# Altium footprint library MyLibrary.PcbLib: 365 footprints (part 5 of 23)
Each footprint in its own frame and in the unit in brackets; x right, y up, seen from the top. Pads: shape width x height; smd on the part's side, far side on the other; paste and mask are expansions set on the pad; w line width, h text height; cw(c..) or ccw(c..) is an arc to the next point about the centre after c.
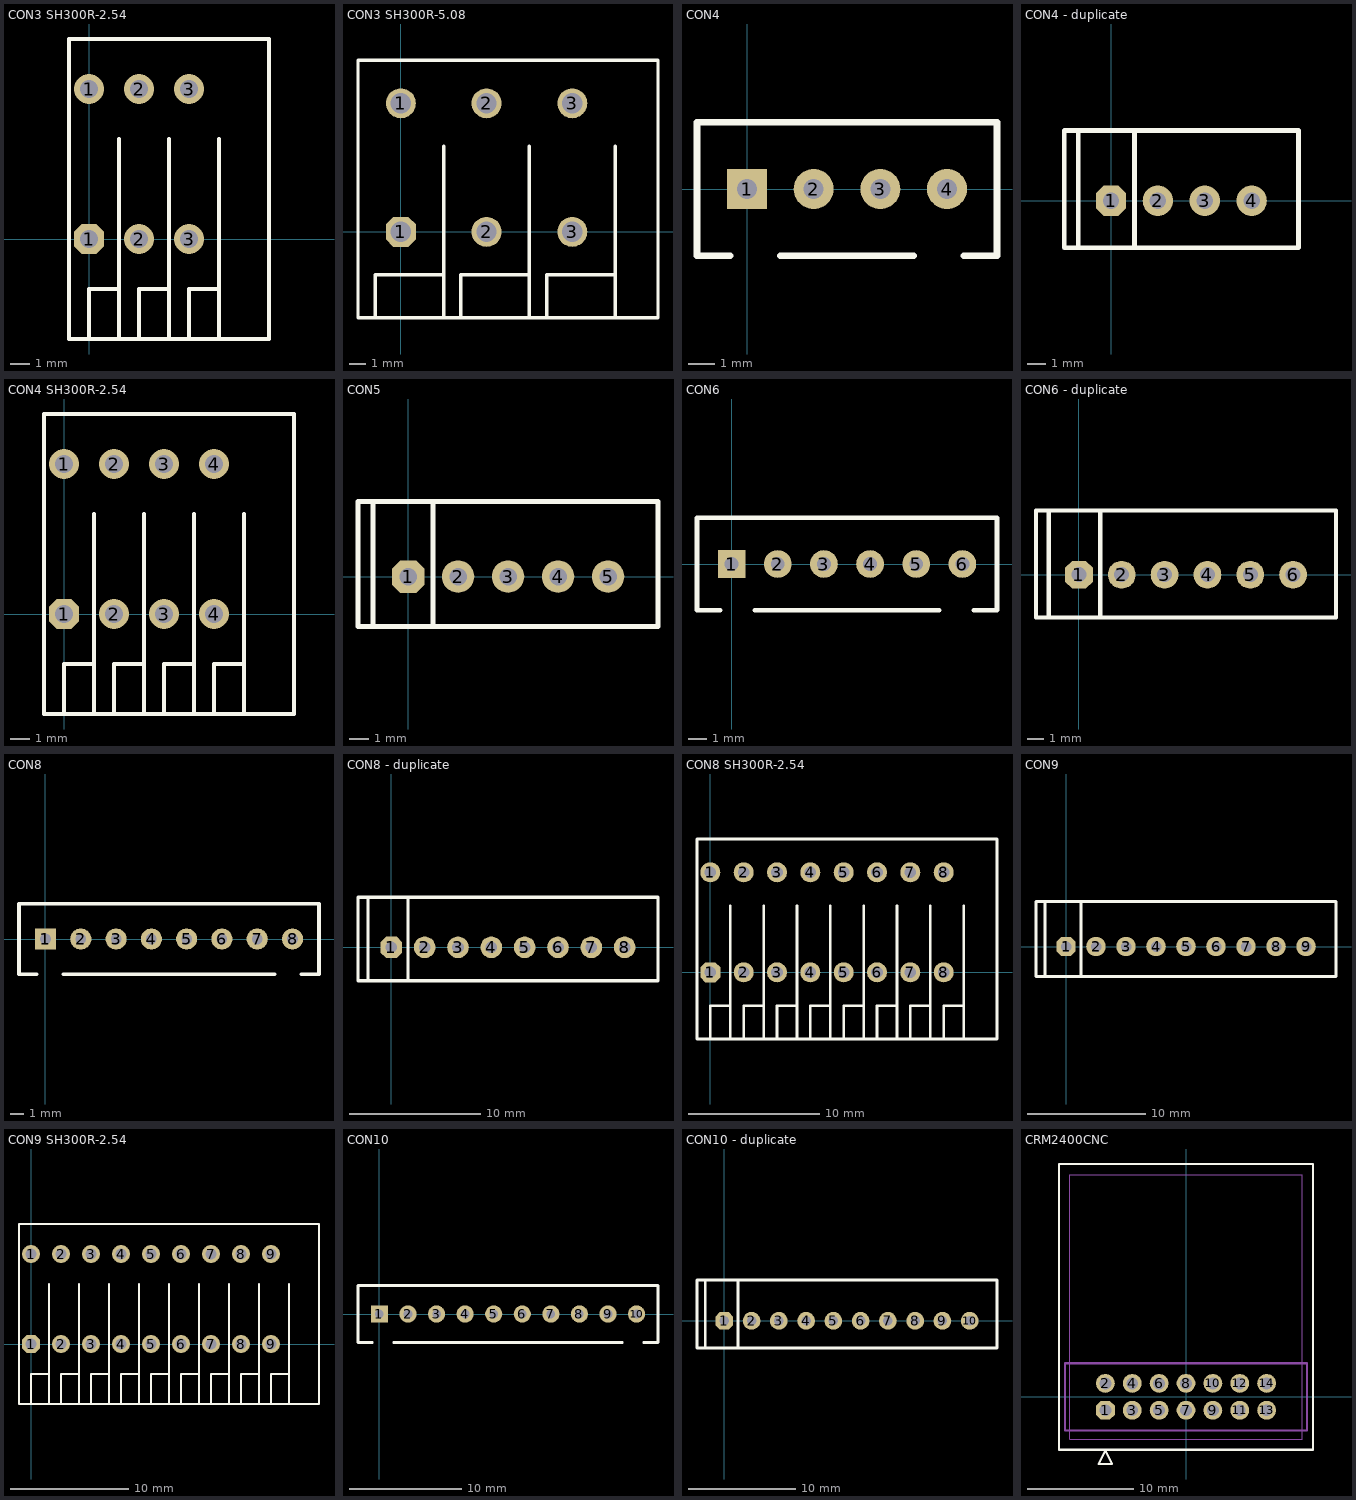
[diagram p4: the footprints below, top view; thin cyan lines are the x and y axes]

## CON3 SH300R-2.54 [mil]
pads (6):
  oct 60x60 hole 35.43: 1(0,0)
  round 60 hole 35.43: 1(0,300) 2(100,0) 2(100,300) 3(200,0) 3(200,300)
Top Overlay:
  lines w8: 0,-200 0,-100 60,-100 ; 60,-200 60,200 ; 100,-200 100,-100 160,-100 ; 160,-200 160,200 ; 200,-200 200,-100 260,-100 ; 260,-200 260,200 ; -40,-200 360,-200 360,400 -40,400 -40,-200

## CON3 SH300R-5.08 [mil]
pads (6):
  oct 70x70 hole 47.24: 1(0,0)
  round 70 hole 47.24: 1(0,300) 2(200,0) 2(200,300) 3(400,0) 3(400,300)
Top Overlay:
  lines w8: -60,-200 -60,-100 100,-100 ; 100,-200 100,200 ; 140,-200 140,-100 300,-100 ; 300,-200 300,200 ; 340,-200 340,-100 500,-100 ; 500,-200 500,200 ; -100,-200 600,-200 600,400 -100,400 -100,-200

## CON4 [mil]
pads (4):
  rect 60x60 hole 30: 1(0,0)
  round 60 hole 30: 2(100,0) 3(200,0) 4(300,0)
Top Overlay:
  lines w10: -25,-100 -75,-100 -75,100 375,100 375,-100 325,-100 ; 50,-100 250,-100

## CON4 - duplicate [mil]
pads (4):
  oct 65x65 hole 35: 1(0,0)
  round 65 hole 35: 2(100,0) 3(200,0) 4(300,0)
Top Overlay:
  lines w10: -70,-100 -70,150 ; 50,-100 50,150 ; -100,-100 -100,150 400,150 400,-100 -100,-100

## CON4 SH300R-2.54 [mil]
pads (8):
  oct 60x60 hole 35.43: 1(0,0)
  round 60 hole 35.43: 1(0,300) 2(100,0) 2(100,300) 3(200,0) 3(200,300) 4(300,0) 4(300,300)
Top Overlay:
  lines w8: 0,-200 0,-100 60,-100 ; 60,-200 60,200 ; 100,-200 100,-100 160,-100 ; 160,-200 160,200 ; 200,-200 200,-100 260,-100 ; 260,-200 260,200 ; 300,-200 300,-100 360,-100 ; 360,-200 360,200 ; -40,-200 -40,400 460,400 460,-200 -40,-200

## CON5 [mil]
pads (5):
  oct 65x65 hole 35: 1(0,0)
  round 65 hole 35: 2(100,0) 3(200,0) 4(300,0) 5(400,0)
Top Overlay:
  lines w10: -70,-100 -70,150 ; 50,-100 50,150 ; -100,-100 500,-100 500,150 200,150 -100,150 -100,-100

## CON6 [mil]
pads (6):
  rect 60x60 hole 30: 1(0,0)
  round 60 hole 30: 2(100,0) 3(200,0) 4(300,0) 5(400,0) 6(500,0)
Top Overlay:
  lines w10: -25,-100 -75,-100 -75,100 575,100 575,-100 525,-100 ; 50,-100 450,-100

## CON6 - duplicate [mil]
pads (6):
  oct 65x65 hole 35: 1(0,0)
  round 65 hole 35: 2(100,0) 3(200,0) 4(300,0) 5(400,0) 6(500,0)
Top Overlay:
  lines w10: -70,-100 -70,150 ; 50,-100 50,150 ; -100,-100 600,-100 600,150 -100,150 -100,-100

## CON8 [mil]
pads (8):
  rect 60x60 hole 30: 1(0,0)
  round 60 hole 30: 2(100,0) 3(200,0) 4(300,0) 5(400,0) 6(500,0) 7(600,0) 8(700,0)
Top Overlay:
  lines w10: -25,-100 -75,-100 -75,100 775,100 775,-100 725,-100 ; 50,-100 650,-100

## CON8 - duplicate [mil]
pads (8):
  oct 65x65 hole 35: 1(0,0)
  round 65 hole 35: 2(100,0) 3(200,0) 4(300,0) 5(400,0) 6(500,0) 7(600,0) 8(700,0)
Top Overlay:
  lines w10: -70,-100 -70,150 ; 50,-100 50,150 ; -100,-100 800,-100 800,150 -100,150 -100,-100

## CON8 SH300R-2.54 [mil]
pads (16):
  oct 60x60 hole 35.43: 1(0,0)
  round 60 hole 35.43: 1(0,300) 2(100,0) 2(100,300) 3(200,0) 3(200,300) 4(300,0) 4(300,300) 5(400,0) 5(400,300) 6(500,0) 6(500,300) 7(600,0) 7(600,300) 8(700,0) 8(700,300)
Top Overlay:
  lines w8: 0,-200 0,-100 60,-100 ; 60,-200 60,200 ; 100,-200 100,-100 160,-100 ; 160,-200 160,200 ; 200,-200 200,-100 260,-100 ; 260,-200 260,200 ; 300,-200 300,-100 360,-100 ; 360,-200 360,200 ; 460,-200 460,200 ; 560,-200 560,200 ; 600,-200 600,-100 660,-100 ; 660,-200 660,200 ; 700,-200 700,-100 760,-100 ; 760,-200 760,200 ; 400,-100 400,-200 400,-100 ; 400,-100 460,-100 400,-100 ; 500,-100 500,-200 500,-100 ; 500,-100 560,-100 500,-100 ; -40,-200 -40,400 860,400 860,-200 -40,-200

## CON9 [mil]
pads (9):
  oct 65x65 hole 35: 1(0,0)
  round 65 hole 35: 2(100,0) 3(200,0) 4(300,0) 5(400,0) 6(500,0) 7(600,0) 8(700,0) 9(800,0)
Top Overlay:
  lines w10: -70,-100 -70,150 ; 50,-100 50,150 ; -100,-100 900,-100 900,150 -100,150 -100,-100

## CON9 SH300R-2.54 [mil]
pads (18):
  oct 60x60 hole 35.43: 1(0,0)
  round 60 hole 35.43: 1(0,300) 2(100,0) 2(100,300) 3(200,0) 3(200,300) 4(300,0) 4(300,300) 5(400,0) 5(400,300) 6(500,0) 6(500,300) 7(600,0) 7(600,300) 8(700,0) 8(700,300) 9(800,0) 9(800,300)
Top Overlay:
  lines w8: 0,-200 0,-100 60,-100 ; 60,-200 60,200 ; 100,-200 100,-100 160,-100 ; 160,-200 160,200 ; 200,-200 200,-100 260,-100 ; 260,-200 260,200 ; 300,-200 300,-100 360,-100 ; 360,-200 360,200 ; 460,-200 460,200 ; 560,-200 560,200 ; 600,-200 600,-100 660,-100 ; 660,-200 660,200 ; 700,-200 700,-100 760,-100 ; 760,-200 760,200 ; 800,-200 800,-100 860,-100 ; 860,-200 860,200 ; 400,-100 400,-200 400,-100 ; 400,-100 460,-100 400,-100 ; 500,-100 500,-200 500,-100 ; 500,-100 560,-100 500,-100 ; -40,-200 -40,400 960,400 960,-200 -40,-200

## CON10 [mil]
pads (10):
  rect 60x60 hole 30: 1(0,0)
  round 60 hole 30: 2(100,0) 3(200,0) 4(300,0) 5(400,0) 6(500,0) 7(600,0) 8(700,0) 9(800,0) 10(900,0)
Top Overlay:
  lines w10: -25,-100 -75,-100 -75,100 975,100 975,-100 925,-100 ; 50,-100 850,-100

## CON10 - duplicate [mil]
pads (10):
  oct 65x65 hole 35: 1(0,0)
  round 65 hole 35: 2(100,0) 3(200,0) 4(300,0) 5(400,0) 6(500,0) 7(600,0) 8(700,0) 9(800,0) 10(900,0)
Top Overlay:
  lines w10: -70,-100 -70,150 ; 50,-100 50,150 ; -100,-100 1000,-100 1000,150 -100,150 -100,-100

## CRM2400CNC [mil]
pads (14):
  oct 70x70 hole 44.09: 1(-300,-50)
  round 70 hole 44.09: 2(-300,50) 3(-200,-50) 4(-200,50) 5(-100,-50) 6(-100,50) 7(0,-50) 8(0,50) 9(100,-50) 10(100,50) 11(200,-50) 12(200,50) 13(300,-50) 14(300,50)
Top Overlay:
  lines w7.87: -472.44,-196.85 472.44,-196.85 472.44,866.14 -472.44,866.14 -472.44,-196.85
  lines w8: -325,-250 -275,-250 -300,-200 -325,-250
Mechanical 1:
  lines w3.94: -433.07,-157.48 433.07,-157.48 433.07,826.77 -433.07,826.77 -433.07,-157.48
  lines w8: -450,-125 -450,125 450,125 450,-125 -450,-125
  text "1" at -370,-70 h40
  text "2" at -360,30 h40
  text "13" at 420,-70 h40
  text "14" at 420,30 h40